# EAGLE library part TMS320C6720RFP-EXPAD (library lm5007)
Floating-Point Digital Signal Processors Source: http://focus.ti.com/lit/ds/symlink/tms320c6720.pdf
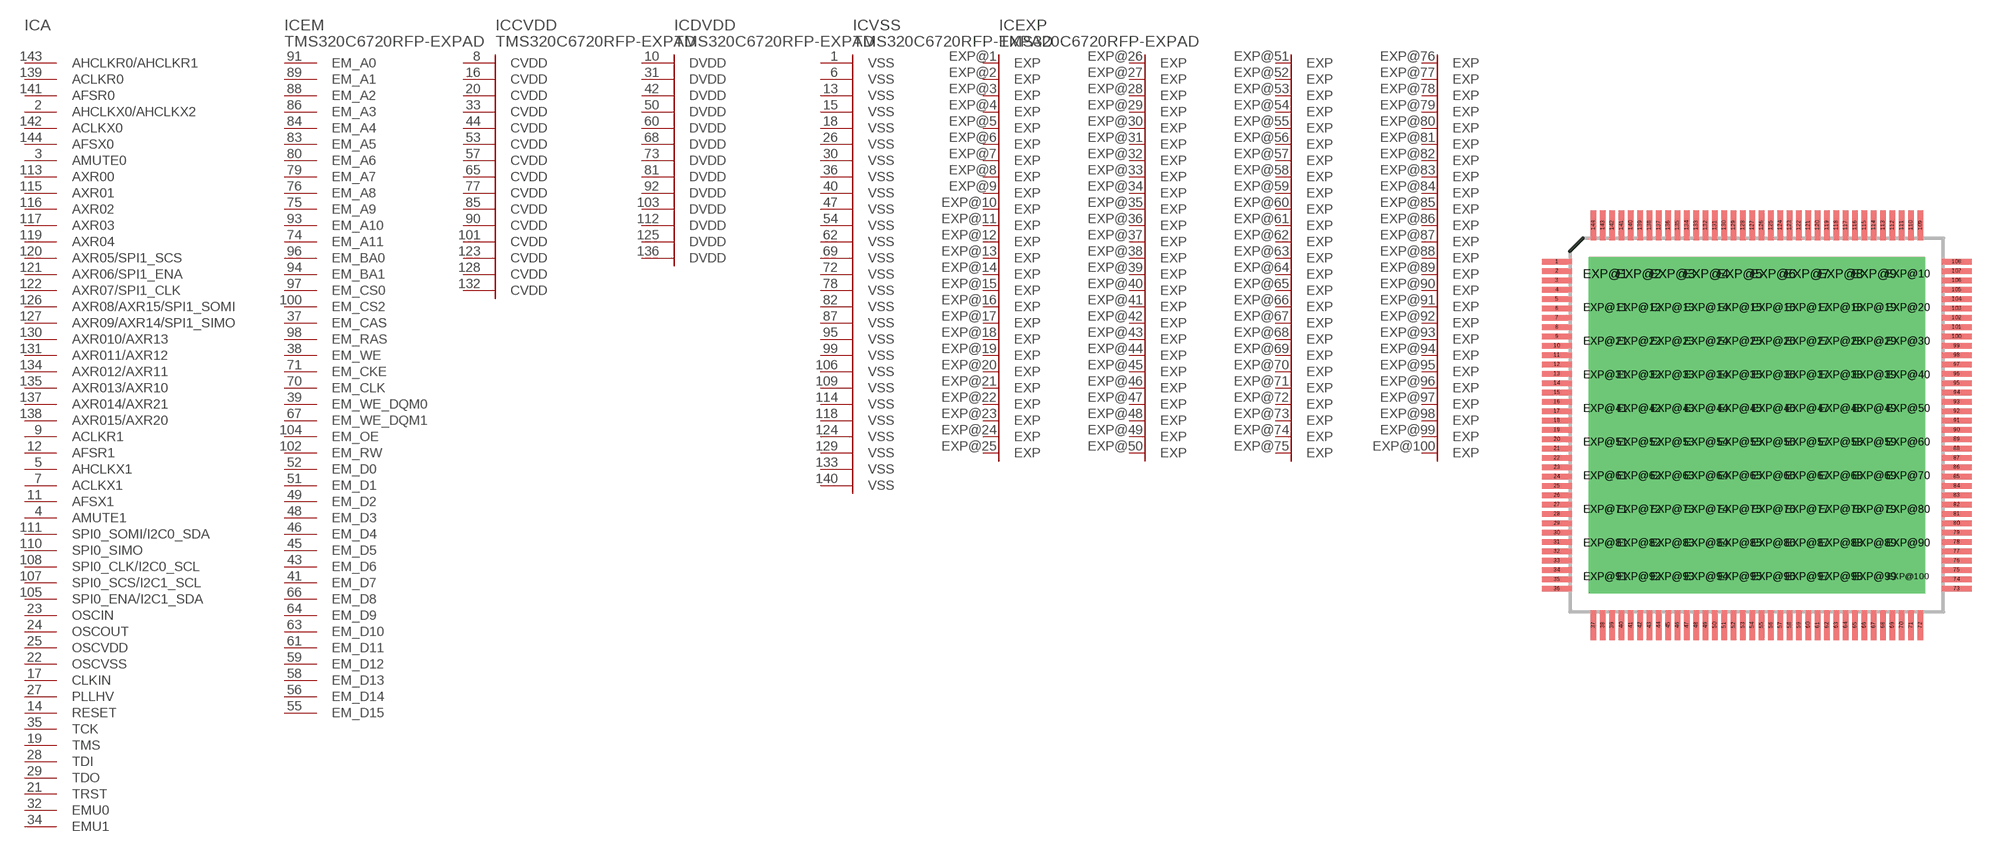
[diagram p75: symbol with the pads of RFP_S-PQFP-G144-EXPAD; footprint RFP_S-PQFP-G144-EXPAD]

Designator prefix IC; gates A=TMS320C6720-QFP-A EM=TMS320C6720-QFP-EM CVDD=TMS320C6720-QFP-CVDD DVDD=TMS320C6720-QFP-DVDD VSS=TMS320C6720-QFP-VSS EXP=EXP-100

## TMS320C6720RFP-EXPAD (OC_FARNELL: unknown; OC_NEWARK: unknown)  [RFP_S-PQFP-G144-EXPAD]
1  VSS:VSS  pwr
2  A:AHCLKX0/AHCLKX2
3  A:AMUTE0  out
4  A:AMUTE1  out
5  A:AHCLKX1
6  VSS:VSS  pwr
7  A:ACLKX1
8  CVDD:CVDD  pwr
9  A:ACLKR1
10  DVDD:DVDD  pwr
11  A:AFSX1
12  A:AFSR1
13  VSS:VSS  pwr
14  A:RESET  in
15  VSS:VSS  pwr
16  CVDD:CVDD  pwr
17  A:CLKIN  in
18  VSS:VSS  pwr
19  A:TMS  in
20  CVDD:CVDD  pwr
21  A:TRST  in
22  A:OSCVSS  pwr
23  A:OSCIN  in
24  A:OSCOUT  out
25  A:OSCVDD  pwr
26  VSS:VSS  pwr
27  A:PLLHV  pwr
28  A:TDI  in
29  A:TDO  hiz
30  VSS:VSS  pwr
31  DVDD:DVDD  pwr
32  A:EMU0
33  CVDD:CVDD  pwr
34  A:EMU1
35  A:TCK  in
36  VSS:VSS  pwr
37  EM:EM_CAS  out
38  EM:EM_WE  out
39  EM:EM_WE_DQM0  out
40  VSS:VSS  pwr
41  EM:EM_D7
42  DVDD:DVDD  pwr
43  EM:EM_D6
44  CVDD:CVDD  pwr
45  EM:EM_D5
46  EM:EM_D4
47  VSS:VSS  pwr
48  EM:EM_D3
49  EM:EM_D2
50  DVDD:DVDD  pwr
51  EM:EM_D1
52  EM:EM_D0
53  CVDD:CVDD  pwr
54  VSS:VSS  pwr
55  EM:EM_D15
56  EM:EM_D14
57  CVDD:CVDD  pwr
58  EM:EM_D13
59  EM:EM_D12
60  DVDD:DVDD  pwr
61  EM:EM_D11
62  VSS:VSS  pwr
63  EM:EM_D10
64  EM:EM_D9
65  CVDD:CVDD  pwr
66  EM:EM_D8
67  EM:EM_WE_DQM1  out
68  DVDD:DVDD  pwr
69  VSS:VSS  pwr
70  EM:EM_CLK  out
71  EM:EM_CKE  out
72  VSS:VSS  pwr
73  DVDD:DVDD  pwr
74  EM:EM_A11  out
75  EM:EM_A9  out
76  EM:EM_A8  out
77  CVDD:CVDD  pwr
78  VSS:VSS  pwr
79  EM:EM_A7  out
80  EM:EM_A6  out
81  DVDD:DVDD  pwr
82  VSS:VSS  pwr
83  EM:EM_A5  out
84  EM:EM_A4  out
85  CVDD:CVDD  pwr
86  EM:EM_A3  out
87  VSS:VSS  pwr
88  EM:EM_A2  out
89  EM:EM_A1  out
90  CVDD:CVDD  pwr
91  EM:EM_A0  out
92  DVDD:DVDD  pwr
93  EM:EM_A10  out
94  EM:EM_BA1  out
95  VSS:VSS  pwr
96  EM:EM_BA0  out
97  EM:EM_CS0  out
98  EM:EM_RAS  out
99  VSS:VSS  pwr
100  EM:EM_CS2  out
101  CVDD:CVDD  pwr
102  EM:EM_RW  out
103  DVDD:DVDD  pwr
104  EM:EM_OE  out
105  A:SPI0_ENA/I2C1_SDA
106  VSS:VSS  pwr
107  A:SPI0_SCS/I2C1_SCL
108  A:SPI0_CLK/I2C0_SCL
109  VSS:VSS  pwr
110  A:SPI0_SIMO
111  A:SPI0_SOMI/I2C0_SDA
112  DVDD:DVDD  pwr
113  A:AXR00
114  VSS:VSS  pwr
115  A:AXR01
116  A:AXR02
117  A:AXR03
118  VSS:VSS  pwr
119  A:AXR04
120  A:AXR05/SPI1_SCS
121  A:AXR06/SPI1_ENA
122  A:AXR07/SPI1_CLK
123  CVDD:CVDD  pwr
124  VSS:VSS  pwr
125  DVDD:DVDD  pwr
126  A:AXR08/AXR15/SPI1_SOMI
127  A:AXR09/AXR14/SPI1_SIMO
128  CVDD:CVDD  pwr
129  VSS:VSS  pwr
130  A:AXR010/AXR13
131  A:AXR011/AXR12
132  CVDD:CVDD  pwr
133  VSS:VSS  pwr
134  A:AXR012/AXR11
135  A:AXR013/AXR10
136  DVDD:DVDD  pwr
137  A:AXR014/AXR21
138  A:AXR015/AXR20
139  A:ACLKR0
140  VSS:VSS  pwr
141  A:AFSR0
142  A:ACLKX0
143  A:AHCLKR0/AHCLKR1
144  A:AFSX0
EXP@1  EXP:EXP  in
EXP@2  EXP:EXP  in
EXP@3  EXP:EXP  in
EXP@4  EXP:EXP  in
EXP@5  EXP:EXP  in
EXP@6  EXP:EXP  in
EXP@7  EXP:EXP  in
EXP@8  EXP:EXP  in
EXP@9  EXP:EXP  in
EXP@10  EXP:EXP  in
EXP@11  EXP:EXP  in
EXP@12  EXP:EXP  in
EXP@13  EXP:EXP  in
EXP@14  EXP:EXP  in
EXP@15  EXP:EXP  in
EXP@16  EXP:EXP  in
EXP@17  EXP:EXP  in
EXP@18  EXP:EXP  in
EXP@19  EXP:EXP  in
EXP@20  EXP:EXP  in
EXP@21  EXP:EXP  in
EXP@22  EXP:EXP  in
EXP@23  EXP:EXP  in
EXP@24  EXP:EXP  in
EXP@25  EXP:EXP  in
EXP@26  EXP:EXP  in
EXP@27  EXP:EXP  in
EXP@28  EXP:EXP  in
EXP@29  EXP:EXP  in
EXP@30  EXP:EXP  in
EXP@31  EXP:EXP  in
EXP@32  EXP:EXP  in
EXP@33  EXP:EXP  in
EXP@34  EXP:EXP  in
EXP@35  EXP:EXP  in
EXP@36  EXP:EXP  in
EXP@37  EXP:EXP  in
EXP@38  EXP:EXP  in
EXP@39  EXP:EXP  in
EXP@40  EXP:EXP  in
EXP@41  EXP:EXP  in
EXP@42  EXP:EXP  in
EXP@43  EXP:EXP  in
EXP@44  EXP:EXP  in
EXP@45  EXP:EXP  in
EXP@46  EXP:EXP  in
EXP@47  EXP:EXP  in
EXP@48  EXP:EXP  in
EXP@49  EXP:EXP  in
EXP@50  EXP:EXP  in
EXP@51  EXP:EXP  in
EXP@52  EXP:EXP  in
EXP@53  EXP:EXP  in
EXP@54  EXP:EXP  in
EXP@55  EXP:EXP  in
EXP@56  EXP:EXP  in
EXP@57  EXP:EXP  in
EXP@58  EXP:EXP  in
EXP@59  EXP:EXP  in
EXP@60  EXP:EXP  in
EXP@61  EXP:EXP  in
EXP@62  EXP:EXP  in
EXP@63  EXP:EXP  in
EXP@64  EXP:EXP  in
EXP@65  EXP:EXP  in
EXP@66  EXP:EXP  in
EXP@67  EXP:EXP  in
EXP@68  EXP:EXP  in
EXP@69  EXP:EXP  in
EXP@70  EXP:EXP  in
EXP@71  EXP:EXP  in
EXP@72  EXP:EXP  in
EXP@73  EXP:EXP  in
EXP@74  EXP:EXP  in
EXP@75  EXP:EXP  in
EXP@76  EXP:EXP  in
EXP@77  EXP:EXP  in
EXP@78  EXP:EXP  in
EXP@79  EXP:EXP  in
EXP@80  EXP:EXP  in
EXP@81  EXP:EXP  in
EXP@82  EXP:EXP  in
EXP@83  EXP:EXP  in
EXP@84  EXP:EXP  in
EXP@85  EXP:EXP  in
EXP@86  EXP:EXP  in
EXP@87  EXP:EXP  in
EXP@88  EXP:EXP  in
EXP@89  EXP:EXP  in
EXP@90  EXP:EXP  in
EXP@91  EXP:EXP  in
EXP@92  EXP:EXP  in
EXP@93  EXP:EXP  in
EXP@94  EXP:EXP  in
EXP@95  EXP:EXP  in
EXP@96  EXP:EXP  in
EXP@97  EXP:EXP  in
EXP@98  EXP:EXP  in
EXP@99  EXP:EXP  in
EXP@100  EXP:EXP  in

## Footprint RFP_S-PQFP-G144-EXPAD (pad centres in mm)
RFP_S-PQFP-G144 PowerPAD PLASTIC QUAD FLATPACK Source: http://focus.ti.com/lit/ds/symlink/tms320c6720.pdf Auto generated by make-symbol-device-package-bsdl.ulp Rev. 29
smd 1.6 x 0.3: 1 -10.7,8.75; 2 -10.7,8.25; 3 -10.7,7.75; 4 -10.7,7.25; 5 -10.7,6.75; 6 -10.7,6.25; 7 -10.7,5.75; 8 -10.7,5.25; 9 -10.7,4.75; 10 -10.7,4.25; 11 -10.7,3.75; 12 -10.7,3.25; 13 -10.7,2.75; 14 -10.7,2.25; 15 -10.7,1.75; 16 -10.7,1.25; 17 -10.7,0.75; 18 -10.7,0.25; 19 -10.7,-0.25; 20 -10.7,-0.75; 21 -10.7,-1.25; 22 -10.7,-1.75; 23 -10.7,-2.25; 24 -10.7,-2.75; 25 -10.7,-3.25; 26 -10.7,-3.75; 27 -10.7,-4.25; 28 -10.7,-4.75; 29 -10.7,-5.25; 30 -10.7,-5.75; 31 -10.7,-6.25; 32 -10.7,-6.75; 33 -10.7,-7.25; 34 -10.7,-7.75; 35 -10.7,-8.25; 36 -10.7,-8.75; 73 10.7,-8.75; 74 10.7,-8.25; 75 10.7,-7.75; 76 10.7,-7.25; 77 10.7,-6.75; 78 10.7,-6.25; 79 10.7,-5.75; 80 10.7,-5.25; 81 10.7,-4.75; 82 10.7,-4.25; 83 10.7,-3.75; 84 10.7,-3.25; 85 10.7,-2.75; 86 10.7,-2.25; 87 10.7,-1.75; 88 10.7,-1.25; 89 10.7,-0.75; 90 10.7,-0.25; 91 10.7,0.25; 92 10.7,0.75; 93 10.7,1.25; 94 10.7,1.75; 95 10.7,2.25; 96 10.7,2.75; 97 10.7,3.25; 98 10.7,3.75; 99 10.7,4.25; 100 10.7,4.75; 101 10.7,5.25; 102 10.7,5.75; 103 10.7,6.25; 104 10.7,6.75; 105 10.7,7.25; 106 10.7,7.75; 107 10.7,8.25; 108 10.7,8.75
smd 0.3 x 1.6: 37 -8.75,-10.7; 38 -8.25,-10.7; 39 -7.75,-10.7; 40 -7.25,-10.7; 41 -6.75,-10.7; 42 -6.25,-10.7; 43 -5.75,-10.7; 44 -5.25,-10.7; 45 -4.75,-10.7; 46 -4.25,-10.7; 47 -3.75,-10.7; 48 -3.25,-10.7; 49 -2.75,-10.7; 50 -2.25,-10.7; 51 -1.75,-10.7; 52 -1.25,-10.7; 53 -0.75,-10.7; 54 -0.25,-10.7; 55 0.25,-10.7; 56 0.75,-10.7; 57 1.25,-10.7; 58 1.75,-10.7; 59 2.25,-10.7; 60 2.75,-10.7; 61 3.25,-10.7; 62 3.75,-10.7; 63 4.25,-10.7; 64 4.75,-10.7; 65 5.25,-10.7; 66 5.75,-10.7; 67 6.25,-10.7; 68 6.75,-10.7; 69 7.25,-10.7; 70 7.75,-10.7; 71 8.25,-10.7; 72 8.75,-10.7; 109 8.75,10.7; 110 8.25,10.7; 111 7.75,10.7; 112 7.25,10.7; 113 6.75,10.7; 114 6.25,10.7; 115 5.75,10.7; 116 5.25,10.7; 117 4.75,10.7; 118 4.25,10.7; 119 3.75,10.7; 120 3.25,10.7; 121 2.75,10.7; 122 2.25,10.7; 123 1.75,10.7; 124 1.25,10.7; 125 0.75,10.7; 126 0.25,10.7; 127 -0.25,10.7; 128 -0.75,10.7; 129 -1.25,10.7; 130 -1.75,10.7; 131 -2.25,10.7; 132 -2.75,10.7; 133 -3.25,10.7; 134 -3.75,10.7; 135 -4.25,10.7; 136 -4.75,10.7; 137 -5.25,10.7; 138 -5.75,10.7; 139 -6.25,10.7; 140 -6.75,10.7; 141 -7.25,10.7; 142 -7.75,10.7; 143 -8.25,10.7; 144 -8.75,10.7
drill 0.3 pad 1.8 square: EXP@1 -8.1,8.1; EXP@2 -6.3,8.1; EXP@3 -4.5,8.1; EXP@4 -2.7,8.1; EXP@5 -0.9,8.1; EXP@6 0.9,8.1; EXP@7 2.7,8.1; EXP@8 4.5,8.1; EXP@9 6.3,8.1; EXP@10 8.1,8.1; EXP@11 -8.1,6.3; EXP@12 -6.3,6.3; EXP@13 -4.5,6.3; EXP@14 -2.7,6.3; EXP@15 -0.9,6.3; EXP@16 0.9,6.3; EXP@17 2.7,6.3; EXP@18 4.5,6.3; EXP@19 6.3,6.3; EXP@20 8.1,6.3; EXP@21 -8.1,4.5; EXP@22 -6.3,4.5; EXP@23 -4.5,4.5; EXP@24 -2.7,4.5; EXP@25 -0.9,4.5; EXP@26 0.9,4.5; EXP@27 2.7,4.5; EXP@28 4.5,4.5; EXP@29 6.3,4.5; EXP@30 8.1,4.5; EXP@31 -8.1,2.7; EXP@32 -6.3,2.7; EXP@33 -4.5,2.7; EXP@34 -2.7,2.7; EXP@35 -0.9,2.7; EXP@36 0.9,2.7; EXP@37 2.7,2.7; EXP@38 4.5,2.7; EXP@39 6.3,2.7; EXP@40 8.1,2.7; EXP@41 -8.1,0.9; EXP@42 -6.3,0.9; EXP@43 -4.5,0.9; EXP@44 -2.7,0.9; EXP@45 -0.9,0.9; EXP@46 0.9,0.9; EXP@47 2.7,0.9; EXP@48 4.5,0.9; EXP@49 6.3,0.9; EXP@50 8.1,0.9; EXP@51 -8.1,-0.9; EXP@52 -6.3,-0.9; EXP@53 -4.5,-0.9; EXP@54 -2.7,-0.9; EXP@55 -0.9,-0.9; EXP@56 0.9,-0.9; EXP@57 2.7,-0.9; EXP@58 4.5,-0.9; EXP@59 6.3,-0.9; EXP@60 8.1,-0.9; EXP@61 -8.1,-2.7; EXP@62 -6.3,-2.7; EXP@63 -4.5,-2.7; EXP@64 -2.7,-2.7; EXP@65 -0.9,-2.7; EXP@66 0.9,-2.7; EXP@67 2.7,-2.7; EXP@68 4.5,-2.7; EXP@69 6.3,-2.7; EXP@70 8.1,-2.7; EXP@71 -8.1,-4.5; EXP@72 -6.3,-4.5; EXP@73 -4.5,-4.5; EXP@74 -2.7,-4.5; EXP@75 -0.9,-4.5; EXP@76 0.9,-4.5; EXP@77 2.7,-4.5; EXP@78 4.5,-4.5; EXP@79 6.3,-4.5; EXP@80 8.1,-4.5; EXP@81 -8.1,-6.3; EXP@82 -6.3,-6.3; EXP@83 -4.5,-6.3; EXP@84 -2.7,-6.3; EXP@85 -0.9,-6.3; EXP@86 0.9,-6.3; EXP@87 2.7,-6.3; EXP@88 4.5,-6.3; EXP@89 6.3,-6.3; EXP@90 8.1,-6.3; EXP@91 -8.1,-8.1; EXP@92 -6.3,-8.1; EXP@93 -4.5,-8.1; EXP@94 -2.7,-8.1; EXP@95 -0.9,-8.1; EXP@96 0.9,-8.1; EXP@97 2.7,-8.1; EXP@98 4.5,-8.1; EXP@99 6.3,-8.1; EXP@100 8.1,-8.1